# EAGLE library part L298P (library Common-Parts-Library-Eagle)
L298 Series Dual Full Bridge 4 A 46 V Driver Surface Mount - PowerSO-20
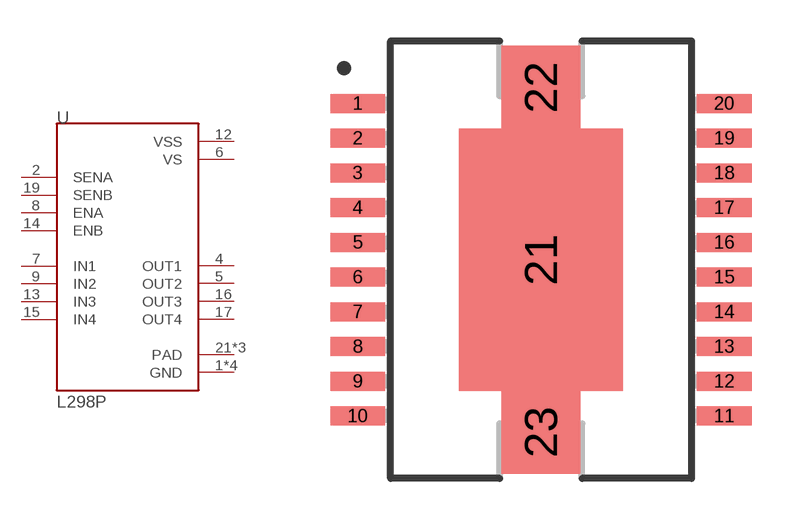
[diagram p39: symbol with the pads of SOIC127P1420X360-20N; footprint SOIC127P1420X360-20N]

Designator prefix U

## L298P (MANUFACTURER: STMicroelectronics)  [SOIC127P1420X360-20N]
1  GND  pas
2  SENA  in
4  OUT1  out
5  OUT2  out
6  VS  pwr
7  IN1  in
8  ENA  in
9  IN2  in
10  GND  pas
11  GND  pas
12  VSS  pwr
13  IN3  in
14  ENB  in
15  IN4  in
16  OUT3  out
17  OUT4  out
19  SENB  in
20  GND  pas
21  PAD  pas
22  PAD  pas
23  PAD  pas

## Footprint SOIC127P1420X360-20N (pad centres in mm)
smd 2 x 0.7: 1 -6.7,5.715; 2 -6.7,4.445; 3 -6.7,3.175; 4 -6.7,1.905; 5 -6.7,0.635; 6 -6.7,-0.635; 7 -6.7,-1.905; 8 -6.7,-3.175; 9 -6.7,-4.445; 10 -6.7,-5.715; 11 6.7,-5.715; 12 6.7,-4.445; 13 6.7,-3.175; 14 6.7,-1.905; 15 6.7,-0.635; 16 6.7,0.635; 17 6.7,1.905; 18 6.7,3.175; 19 6.7,4.445; 20 6.7,5.715
smd 6 x 9.6: 21 0,0
smd 2.9 x 3.05: 22 0,6.3; 23 0,-6.3